# Altium footprint library PCB - CONNECTOR - WURTH - 7462810.PcbLib: 1 footprints
Each footprint in its own frame and in the unit in brackets; x right, y up, seen from the top. Pads: shape width x height; smd on the part's side, far side on the other; paste and mask are expansions set on the pad; w line width, h text height; cw(c..) or ccw(c..) is an arc to the next point about the centre after c.
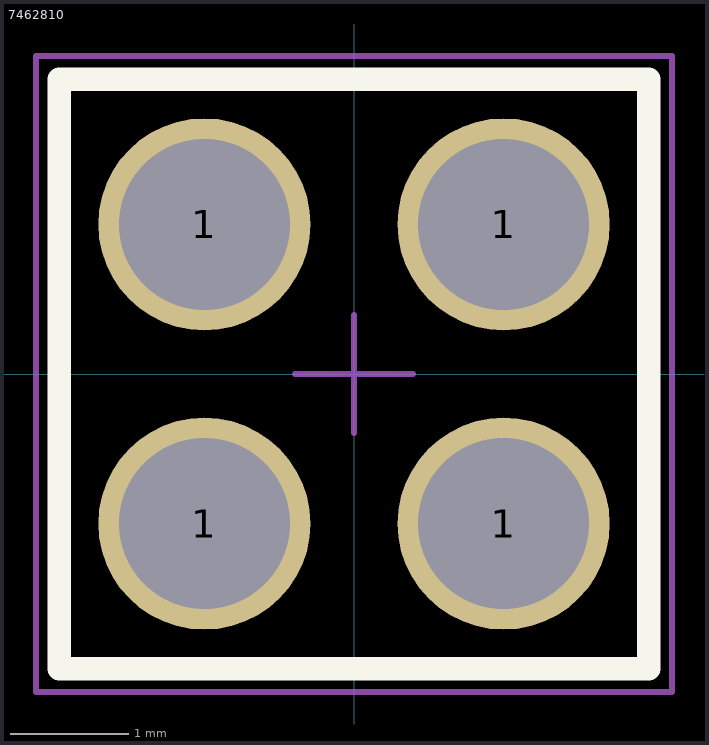
[diagram p0: the footprint, top view; thin cyan lines are the x and y axes]

## 7462810 [mm] "M3, blind 4mm"
height 7
pads (4):
  round 1.8 hole 1.45: 1(-1.27,-1.27) 1(-1.27,1.27) 1(1.27,-1.27) 1(1.27,1.27)
Top Overlay:
  lines w0.2: -2.5,-2.5 2.5,-2.5 2.5,2.5 -2.5,2.5 -2.5,-2.5
Top 3D Body:
  text ".Designator" at -7.498,-0.5 h1.5
Top Component Center:
  lines w0.1: -2.5,-2.5 -2.5,2.5 2.5,2.5 2.5,-2.5 -2.5,-2.5
Top Value (Mech13):
  lines w0.1: -2.5,-2.5 -2.5,2.5 2.5,2.5 2.5,-2.5 -2.5,-2.5
Mechanical 15:
  lines w0.05: -0.5,0 0.5,0 ; 0,-0.5 0,0.5 ; -2.7,-2.7 -2.7,2.7 2.7,2.7 2.7,-2.7 -2.7,-2.7
3D body "7462810.stp": height 7, standoff -3.5, extent -2.5,-2.5 2.5,2.5